# EAGLE library part SN65C1168-SOIC (library sb2030_logger)
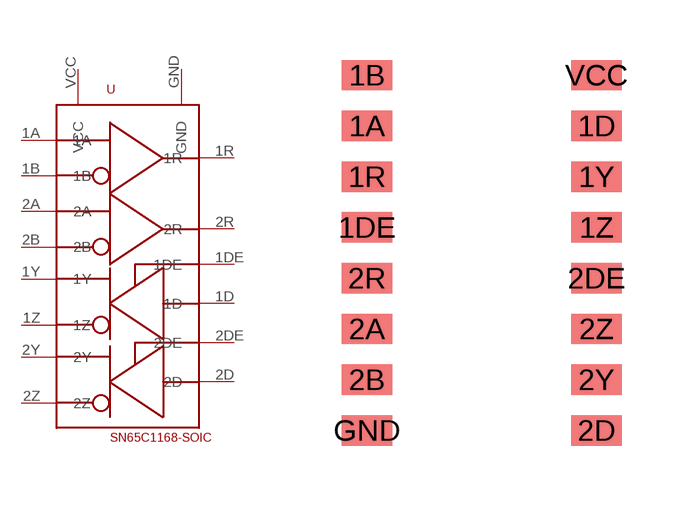
[diagram p7: symbol with the pads of SOIC16; footprint SOIC16]

Designator prefix -

## SN65C1168-SOIC  [SOIC16]
1A  1A
1B  1B
1D  1D
1DE  1DE
1R  1R
1Y  1Y
1Z  1Z
2A  2A
2B  2B
2D  2D
2DE  2DE
2R  2R
2Y  2Y
2Z  2Z
GND  GND
VCC  VCC

## Footprint SOIC16 (pad centres in mm)
smd 1.27 x 0.762: 1A -2.87,3.81; 1B -2.87,5.08; 1D 2.87,3.81; 1DE -2.87,1.27; 1R -2.87,2.54; 1Y 2.87,2.54; 1Z 2.87,1.27; 2A -2.87,-1.27; 2B -2.87,-2.54; 2D 2.87,-3.81; 2DE 2.87,0; 2R -2.87,0; 2Y 2.87,-2.54; 2Z 2.87,-1.27; GND -2.87,-3.81; VCC 2.87,5.08